# EAGLE library part AXN330038 (library diode-20CJQ030)
Matsushita P8 NARROW-PITCH CONNECTORS FOR PC BOARDS 30Pin Socket NARROW-PITCH (0.8mm) CONNECTORS P8 SERIES FEATURES The product lineup consists of the low profile of: - 3 mm - 3.5 mm - 4 mm - 4.5 mm - 5 mm - 5.5 mm - 6 mm - 7 mm - 8 mm - 11.5 mm - 13 mm - 14 mm APPLICATIONS Small portable equipment, laptop computers, video equipment, radio communication, cellular telephones, etc. Please send any comments to: messi@users.sourceforge.net
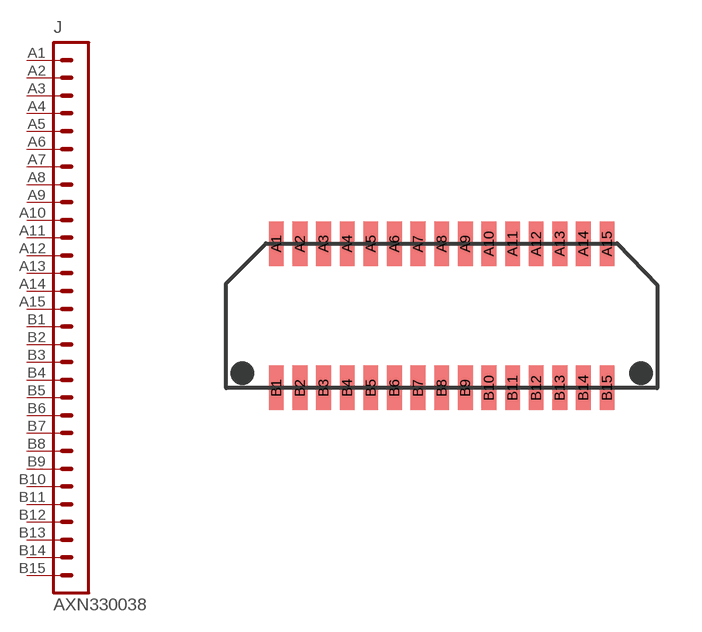
[diagram p6: symbol with the pads of AXN330038S; footprint AXN330038S]

Designator prefix J

## AXN330038  [AXN330038S]
A1  1  pas
A2  2  pas
A3  3  pas
A4  4  pas
A5  5  pas
A6  6  pas
A7  7  pas
A8  8  pas
A9  9  pas
A10  10  pas
A11  11  pas
A12  12  pas
A13  13  pas
A14  14  pas
A15  15  pas
B1  16  pas
B2  17  pas
B3  18  pas
B4  19  pas
B5  20  pas
B6  21  pas
B7  22  pas
B8  23  pas
B9  24  pas
B10  25  pas
B11  26  pas
B12  27  pas
B13  28  pas
B14  29  pas
B15  30  pas

## Footprint AXN330038S (pad centres in mm)
Matsushita NARROW-PITCH CONNECTORS FOR PC BOARDS 30Pin Socket NARROW-PITCH (0.8mm) CONNECTORS P8 SERIES FEATURES The product lineup consists of the low profile of: - 3 mm - 3.5 mm - 4 mm - 4.5 mm - 5 mm - 5.5 mm - 6 mm - 7 mm - 8 mm - 11.5 mm - 13 mm - 14 mm APPLICATIONS Small portable equipment, laptop computers, video equipment, radio communication, cellular telephones, etc. Please send any comments to: messi@users.sourceforge.net
smd 0.5 x 1.5: A1 -5.6,2.44; A2 -4.8,2.44; A3 -4,2.44; A4 -3.2,2.44; A5 -2.4,2.44; A6 -1.6,2.44; A7 -0.8,2.44; A8 0,2.44; A9 0.8,2.44; A10 1.6,2.44; A11 2.4,2.44; A12 3.2,2.44; A13 4,2.44; A14 4.8,2.44; A15 5.6,2.44; B1 -5.6,-2.44; B2 -4.8,-2.44; B3 -4,-2.44; B4 -3.2,-2.44; B5 -2.4,-2.44; B6 -1.6,-2.44; B7 -0.8,-2.44; B8 0,-2.44; B9 0.8,-2.44; B10 1.6,-2.44; B11 2.4,-2.44; B12 3.2,-2.44; B13 4,-2.44; B14 4.8,-2.44; B15 5.6,-2.44